# Altium integrated library Linear Technology PMIC-Switching Reg LTC1174-LTC3901.IntLib: 2647 symbols (part 63 of 310)
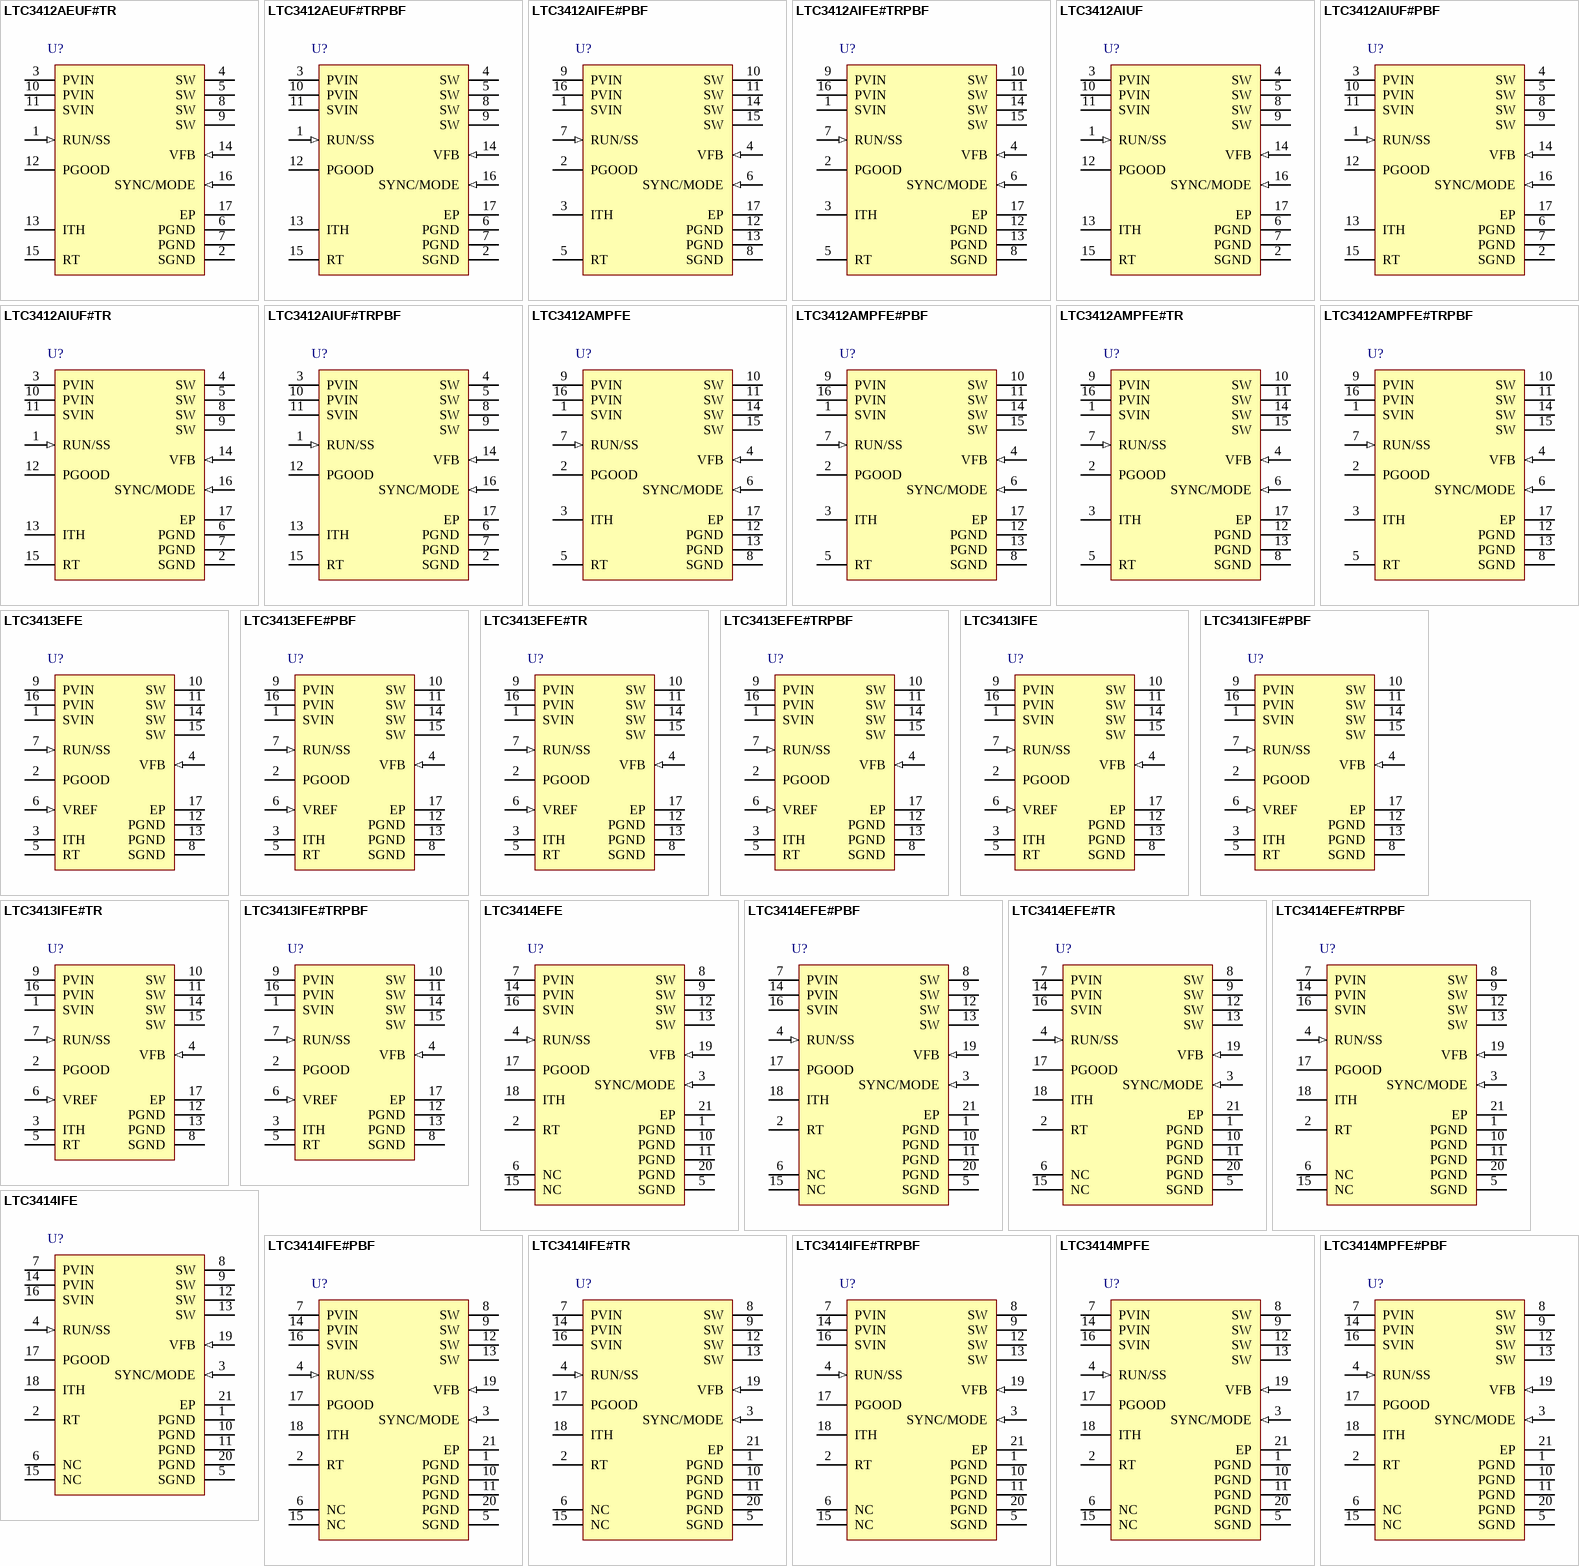
[diagram p152: symbols LTC3412AEUF#TR to LTC3414MPFE#PBF]

## LTC3413EFE#TR
designator U?
3 A, 2 MHz Monolithic Synchronous Regulator for DDR/QDR Memory Termination, 16-pin SOP (FE-16-EPV-BA), -40 to 85 degC, Tape and Reel; Manufacturer: Linear Technology; PartNumber: LTC3413EFE#TR; Number of Outputs: 1; PackageReference: FE-16; PackageDescription: 16-Pin Plastic TSSOP, Body 5 x 4.4 mm, Pitch 0.65 mm; Supplier 1: Digi-Key; Supplier Part Number 1: LTC3413EFE#TR-ND; RoHS: FALSE
footprint LT-FE-16-EPV-BA_N (SOP, 16-Leads, Body 5x4.4mm, Pitch 0.65mm, Thermal Pad 2.74x2.74mm, IPC Medium Density)
footprint LT-FE-16-EPV-BA_L (SOP, 16-Leads, Body 5x4.4mm, Pitch 0.65mm, Thermal Pad 2.74x2.74mm, IPC High Density)
footprint LT-FE-16-EPV-BA_M (SOP, 16-Leads, Body 5x4.4mm, Pitch 0.65mm, Thermal Pad 2.74x2.74mm, IPC Low Density)
pins: 1 SVIN (power) "Signal Input Supply. Decouple this pin to SGND with a capacitor. SVIN must be greater or equal to PVIN, however, the difference between SVIN and PVIN must be less than 0.5V.", 2 PGOOD (oc) "Power Good Output. Open-drain logic output that is pulled to ground when the output voltage is not within +/-10% of regulation point.", 3 ITH "Error Amplifier Compensation Point. The current comparator threshold increases with this control voltage. Nominal voltage range for this pin is from 0.2V to 1.4V with 0.6V corresponding to the zero-sense voltage (zero (See Datasheet)", 4 VFB (in) "Feedback Pin. Receives the feedback voltage from the output", 5 RT "Oscillator Resistor Input. Connecting a resistor to ground from this pin sets the switching frequency", 6 VREF (in) "Reference Voltage Input. The positive input of the internal error amplifier senses one-half of the voltage at this pin through a resistor divider.", 7 RUN/SS (in) "Run Control and Soft-Start Input. Forcing this pin below 0.5V shuts down the LTC3413. In shutdown all functions are disabled drawing < 1uA of supply current. A capacitor to ground from this pin sets the ramp time to full (See Datasheet)", 8 SGND (power) "Signal Ground. All small-signal components and compensation components should connect to this ground, which in turn connects to PGND at one point.", 9 PVIN (power) "Power Input Supply. Decouple this pin to PGND with a capacitor.", 10 SW (power) "Switch Node Connection to Inductor. This pin connects to the drains of the internal main and synchronous power MOSFET switches.", 11 SW (power) "Switch Node Connection to Inductor. This pin connects to the drains of the internal main and synchronous power MOSFET switches.", 12 PGND (power) "Power Ground. Connect this pin closely to the (-) terminal of CIN and COUT.", 13 PGND (power) "Power Ground. Connect this pin closely to the (-) terminal of CIN and COUT.", 14 SW (power) "Switch Node Connection to Inductor. This pin connects to the drains of the internal main and synchronous power MOSFET switches.", 15 SW (power) "Switch Node Connection to Inductor. This pin connects to the drains of the internal main and synchronous power MOSFET switches.", 16 PVIN (power) "Power Input Supply. Decouple this pin to PGND with a capacitor.", 17 EP (power) "Should be connected to PCB ground."

## LTC3413EFE#TRPBF
designator U?
3 A, 2 MHz Monolithic Synchronous Regulator for DDR/QDR Memory Termination, 16-pin SOP (FE-16-EPV-BA), -40 to 85 degC, Pb-Free, Tape and Reel; Manufacturer: Linear Technology; PartNumber: LTC3413EFE#TRPBF; Number of Outputs: 1; PackageReference: FE-16; PackageDescription: 16-Pin Plastic TSSOP, Body 5 x 4.4 mm, Pitch 0.65 mm; Supplier 1: Digi-Key; Supplier Part Number 1: LTC3413EFE#TRPBF-ND; RoHS: TRUE
footprint LT-FE-16-EPV-BA_N (SOP, 16-Leads, Body 5x4.4mm, Pitch 0.65mm, Thermal Pad 2.74x2.74mm, IPC Medium Density)
footprint LT-FE-16-EPV-BA_L (SOP, 16-Leads, Body 5x4.4mm, Pitch 0.65mm, Thermal Pad 2.74x2.74mm, IPC High Density)
footprint LT-FE-16-EPV-BA_M (SOP, 16-Leads, Body 5x4.4mm, Pitch 0.65mm, Thermal Pad 2.74x2.74mm, IPC Low Density)
pins: 1 SVIN (power) "Signal Input Supply. Decouple this pin to SGND with a capacitor. SVIN must be greater or equal to PVIN, however, the difference between SVIN and PVIN must be less than 0.5V.", 2 PGOOD (oc) "Power Good Output. Open-drain logic output that is pulled to ground when the output voltage is not within +/-10% of regulation point.", 3 ITH "Error Amplifier Compensation Point. The current comparator threshold increases with this control voltage. Nominal voltage range for this pin is from 0.2V to 1.4V with 0.6V corresponding to the zero-sense voltage (zero (See Datasheet)", 4 VFB (in) "Feedback Pin. Receives the feedback voltage from the output", 5 RT "Oscillator Resistor Input. Connecting a resistor to ground from this pin sets the switching frequency", 6 VREF (in) "Reference Voltage Input. The positive input of the internal error amplifier senses one-half of the voltage at this pin through a resistor divider.", 7 RUN/SS (in) "Run Control and Soft-Start Input. Forcing this pin below 0.5V shuts down the LTC3413. In shutdown all functions are disabled drawing < 1uA of supply current. A capacitor to ground from this pin sets the ramp time to full (See Datasheet)", 8 SGND (power) "Signal Ground. All small-signal components and compensation components should connect to this ground, which in turn connects to PGND at one point.", 9 PVIN (power) "Power Input Supply. Decouple this pin to PGND with a capacitor.", 10 SW (power) "Switch Node Connection to Inductor. This pin connects to the drains of the internal main and synchronous power MOSFET switches.", 11 SW (power) "Switch Node Connection to Inductor. This pin connects to the drains of the internal main and synchronous power MOSFET switches.", 12 PGND (power) "Power Ground. Connect this pin closely to the (-) terminal of CIN and COUT.", 13 PGND (power) "Power Ground. Connect this pin closely to the (-) terminal of CIN and COUT.", 14 SW (power) "Switch Node Connection to Inductor. This pin connects to the drains of the internal main and synchronous power MOSFET switches.", 15 SW (power) "Switch Node Connection to Inductor. This pin connects to the drains of the internal main and synchronous power MOSFET switches.", 16 PVIN (power) "Power Input Supply. Decouple this pin to PGND with a capacitor.", 17 EP (power) "Should be connected to PCB ground."

## LTC3413IFE
designator U?
3 A, 2 MHz Monolithic Synchronous Regulator for DDR/QDR Memory Termination, 16-pin SOP (FE-16-EPV-BA), -40 to 85 degC; Manufacturer: Linear Technology; PartNumber: LTC3413IFE; Number of Outputs: 1; PackageReference: FE-16; PackageDescription: 16-Pin Plastic TSSOP, Body 5 x 4.4 mm, Pitch 0.65 mm; Supplier 1: Newark; Supplier Part Number 1: 56M7703; RoHS: FALSE
footprint LT-FE-16-EPV-BA_N (SOP, 16-Leads, Body 5x4.4mm, Pitch 0.65mm, Thermal Pad 2.74x2.74mm, IPC Medium Density)
footprint LT-FE-16-EPV-BA_L (SOP, 16-Leads, Body 5x4.4mm, Pitch 0.65mm, Thermal Pad 2.74x2.74mm, IPC High Density)
footprint LT-FE-16-EPV-BA_M (SOP, 16-Leads, Body 5x4.4mm, Pitch 0.65mm, Thermal Pad 2.74x2.74mm, IPC Low Density)
pins: 1 SVIN (power) "Signal Input Supply. Decouple this pin to SGND with a capacitor. SVIN must be greater or equal to PVIN, however, the difference between SVIN and PVIN must be less than 0.5V.", 2 PGOOD (oc) "Power Good Output. Open-drain logic output that is pulled to ground when the output voltage is not within +/-10% of regulation point.", 3 ITH "Error Amplifier Compensation Point. The current comparator threshold increases with this control voltage. Nominal voltage range for this pin is from 0.2V to 1.4V with 0.6V corresponding to the zero-sense voltage (zero (See Datasheet)", 4 VFB (in) "Feedback Pin. Receives the feedback voltage from the output", 5 RT "Oscillator Resistor Input. Connecting a resistor to ground from this pin sets the switching frequency", 6 VREF (in) "Reference Voltage Input. The positive input of the internal error amplifier senses one-half of the voltage at this pin through a resistor divider.", 7 RUN/SS (in) "Run Control and Soft-Start Input. Forcing this pin below 0.5V shuts down the LTC3413. In shutdown all functions are disabled drawing < 1uA of supply current. A capacitor to ground from this pin sets the ramp time to full (See Datasheet)", 8 SGND (power) "Signal Ground. All small-signal components and compensation components should connect to this ground, which in turn connects to PGND at one point.", 9 PVIN (power) "Power Input Supply. Decouple this pin to PGND with a capacitor.", 10 SW (power) "Switch Node Connection to Inductor. This pin connects to the drains of the internal main and synchronous power MOSFET switches.", 11 SW (power) "Switch Node Connection to Inductor. This pin connects to the drains of the internal main and synchronous power MOSFET switches.", 12 PGND (power) "Power Ground. Connect this pin closely to the (-) terminal of CIN and COUT.", 13 PGND (power) "Power Ground. Connect this pin closely to the (-) terminal of CIN and COUT.", 14 SW (power) "Switch Node Connection to Inductor. This pin connects to the drains of the internal main and synchronous power MOSFET switches.", 15 SW (power) "Switch Node Connection to Inductor. This pin connects to the drains of the internal main and synchronous power MOSFET switches.", 16 PVIN (power) "Power Input Supply. Decouple this pin to PGND with a capacitor.", 17 EP (power) "Should be connected to PCB ground."

## LTC3413IFE#PBF
designator U?
3 A, 2 MHz Monolithic Synchronous Regulator for DDR/QDR Memory Termination, 16-pin SOP (FE-16-EPV-BA), -40 to 85 degC, Pb-Free; Manufacturer: Linear Technology; PartNumber: LTC3413IFE#PBF; Number of Outputs: 1; PackageReference: FE-16; PackageDescription: 16-Pin Plastic TSSOP, Body 5 x 4.4 mm, Pitch 0.65 mm; Supplier 1: Digi-Key; Supplier Part Number 1: LTC3413IFE#PBF-ND; RoHS: TRUE
footprint LT-FE-16-EPV-BA_N (SOP, 16-Leads, Body 5x4.4mm, Pitch 0.65mm, Thermal Pad 2.74x2.74mm, IPC Medium Density)
footprint LT-FE-16-EPV-BA_L (SOP, 16-Leads, Body 5x4.4mm, Pitch 0.65mm, Thermal Pad 2.74x2.74mm, IPC High Density)
footprint LT-FE-16-EPV-BA_M (SOP, 16-Leads, Body 5x4.4mm, Pitch 0.65mm, Thermal Pad 2.74x2.74mm, IPC Low Density)
pins: 1 SVIN (power) "Signal Input Supply. Decouple this pin to SGND with a capacitor. SVIN must be greater or equal to PVIN, however, the difference between SVIN and PVIN must be less than 0.5V.", 2 PGOOD (oc) "Power Good Output. Open-drain logic output that is pulled to ground when the output voltage is not within +/-10% of regulation point.", 3 ITH "Error Amplifier Compensation Point. The current comparator threshold increases with this control voltage. Nominal voltage range for this pin is from 0.2V to 1.4V with 0.6V corresponding to the zero-sense voltage (zero (See Datasheet)", 4 VFB (in) "Feedback Pin. Receives the feedback voltage from the output", 5 RT "Oscillator Resistor Input. Connecting a resistor to ground from this pin sets the switching frequency", 6 VREF (in) "Reference Voltage Input. The positive input of the internal error amplifier senses one-half of the voltage at this pin through a resistor divider.", 7 RUN/SS (in) "Run Control and Soft-Start Input. Forcing this pin below 0.5V shuts down the LTC3413. In shutdown all functions are disabled drawing < 1uA of supply current. A capacitor to ground from this pin sets the ramp time to full (See Datasheet)", 8 SGND (power) "Signal Ground. All small-signal components and compensation components should connect to this ground, which in turn connects to PGND at one point.", 9 PVIN (power) "Power Input Supply. Decouple this pin to PGND with a capacitor.", 10 SW (power) "Switch Node Connection to Inductor. This pin connects to the drains of the internal main and synchronous power MOSFET switches.", 11 SW (power) "Switch Node Connection to Inductor. This pin connects to the drains of the internal main and synchronous power MOSFET switches.", 12 PGND (power) "Power Ground. Connect this pin closely to the (-) terminal of CIN and COUT.", 13 PGND (power) "Power Ground. Connect this pin closely to the (-) terminal of CIN and COUT.", 14 SW (power) "Switch Node Connection to Inductor. This pin connects to the drains of the internal main and synchronous power MOSFET switches.", 15 SW (power) "Switch Node Connection to Inductor. This pin connects to the drains of the internal main and synchronous power MOSFET switches.", 16 PVIN (power) "Power Input Supply. Decouple this pin to PGND with a capacitor.", 17 EP (power) "Should be connected to PCB ground."

## LTC3413IFE#TR
designator U?
3 A, 2 MHz Monolithic Synchronous Regulator for DDR/QDR Memory Termination, 16-pin SOP (FE-16-EPV-BA), -40 to 85 degC, Tape and Reel; Manufacturer: Linear Technology; PartNumber: LTC3413IFE#TR; Number of Outputs: 1; PackageReference: FE-16; PackageDescription: 16-Pin Plastic TSSOP, Body 5 x 4.4 mm, Pitch 0.65 mm; RoHS: FALSE
footprint LT-FE-16-EPV-BA_N (SOP, 16-Leads, Body 5x4.4mm, Pitch 0.65mm, Thermal Pad 2.74x2.74mm, IPC Medium Density)
footprint LT-FE-16-EPV-BA_L (SOP, 16-Leads, Body 5x4.4mm, Pitch 0.65mm, Thermal Pad 2.74x2.74mm, IPC High Density)
footprint LT-FE-16-EPV-BA_M (SOP, 16-Leads, Body 5x4.4mm, Pitch 0.65mm, Thermal Pad 2.74x2.74mm, IPC Low Density)
pins: 1 SVIN (power) "Signal Input Supply. Decouple this pin to SGND with a capacitor. SVIN must be greater or equal to PVIN, however, the difference between SVIN and PVIN must be less than 0.5V.", 2 PGOOD (oc) "Power Good Output. Open-drain logic output that is pulled to ground when the output voltage is not within +/-10% of regulation point.", 3 ITH "Error Amplifier Compensation Point. The current comparator threshold increases with this control voltage. Nominal voltage range for this pin is from 0.2V to 1.4V with 0.6V corresponding to the zero-sense voltage (zero (See Datasheet)", 4 VFB (in) "Feedback Pin. Receives the feedback voltage from the output", 5 RT "Oscillator Resistor Input. Connecting a resistor to ground from this pin sets the switching frequency", 6 VREF (in) "Reference Voltage Input. The positive input of the internal error amplifier senses one-half of the voltage at this pin through a resistor divider.", 7 RUN/SS (in) "Run Control and Soft-Start Input. Forcing this pin below 0.5V shuts down the LTC3413. In shutdown all functions are disabled drawing < 1uA of supply current. A capacitor to ground from this pin sets the ramp time to full (See Datasheet)", 8 SGND (power) "Signal Ground. All small-signal components and compensation components should connect to this ground, which in turn connects to PGND at one point.", 9 PVIN (power) "Power Input Supply. Decouple this pin to PGND with a capacitor.", 10 SW (power) "Switch Node Connection to Inductor. This pin connects to the drains of the internal main and synchronous power MOSFET switches.", 11 SW (power) "Switch Node Connection to Inductor. This pin connects to the drains of the internal main and synchronous power MOSFET switches.", 12 PGND (power) "Power Ground. Connect this pin closely to the (-) terminal of CIN and COUT.", 13 PGND (power) "Power Ground. Connect this pin closely to the (-) terminal of CIN and COUT.", 14 SW (power) "Switch Node Connection to Inductor. This pin connects to the drains of the internal main and synchronous power MOSFET switches.", 15 SW (power) "Switch Node Connection to Inductor. This pin connects to the drains of the internal main and synchronous power MOSFET switches.", 16 PVIN (power) "Power Input Supply. Decouple this pin to PGND with a capacitor.", 17 EP (power) "Should be connected to PCB ground."

## LTC3413IFE#TRPBF
designator U?
3 A, 2 MHz Monolithic Synchronous Regulator for DDR/QDR Memory Termination, 16-pin SOP (FE-16-EPV-BA), -40 to 85 degC, Pb-Free, Tape and Reel; Manufacturer: Linear Technology; PartNumber: LTC3413IFE#TRPBF; Number of Outputs: 1; PackageReference: FE-16; PackageDescription: 16-Pin Plastic TSSOP, Body 5 x 4.4 mm, Pitch 0.65 mm; Supplier 1: Digi-Key; Supplier Part Number 1: LTC3413IFE#TRPBF-ND; RoHS: TRUE
footprint LT-FE-16-EPV-BA_N (SOP, 16-Leads, Body 5x4.4mm, Pitch 0.65mm, Thermal Pad 2.74x2.74mm, IPC Medium Density)
footprint LT-FE-16-EPV-BA_L (SOP, 16-Leads, Body 5x4.4mm, Pitch 0.65mm, Thermal Pad 2.74x2.74mm, IPC High Density)
footprint LT-FE-16-EPV-BA_M (SOP, 16-Leads, Body 5x4.4mm, Pitch 0.65mm, Thermal Pad 2.74x2.74mm, IPC Low Density)
pins: 1 SVIN (power) "Signal Input Supply. Decouple this pin to SGND with a capacitor. SVIN must be greater or equal to PVIN, however, the difference between SVIN and PVIN must be less than 0.5V.", 2 PGOOD (oc) "Power Good Output. Open-drain logic output that is pulled to ground when the output voltage is not within +/-10% of regulation point.", 3 ITH "Error Amplifier Compensation Point. The current comparator threshold increases with this control voltage. Nominal voltage range for this pin is from 0.2V to 1.4V with 0.6V corresponding to the zero-sense voltage (zero (See Datasheet)", 4 VFB (in) "Feedback Pin. Receives the feedback voltage from the output", 5 RT "Oscillator Resistor Input. Connecting a resistor to ground from this pin sets the switching frequency", 6 VREF (in) "Reference Voltage Input. The positive input of the internal error amplifier senses one-half of the voltage at this pin through a resistor divider.", 7 RUN/SS (in) "Run Control and Soft-Start Input. Forcing this pin below 0.5V shuts down the LTC3413. In shutdown all functions are disabled drawing < 1uA of supply current. A capacitor to ground from this pin sets the ramp time to full (See Datasheet)", 8 SGND (power) "Signal Ground. All small-signal components and compensation components should connect to this ground, which in turn connects to PGND at one point.", 9 PVIN (power) "Power Input Supply. Decouple this pin to PGND with a capacitor.", 10 SW (power) "Switch Node Connection to Inductor. This pin connects to the drains of the internal main and synchronous power MOSFET switches.", 11 SW (power) "Switch Node Connection to Inductor. This pin connects to the drains of the internal main and synchronous power MOSFET switches.", 12 PGND (power) "Power Ground. Connect this pin closely to the (-) terminal of CIN and COUT.", 13 PGND (power) "Power Ground. Connect this pin closely to the (-) terminal of CIN and COUT.", 14 SW (power) "Switch Node Connection to Inductor. This pin connects to the drains of the internal main and synchronous power MOSFET switches.", 15 SW (power) "Switch Node Connection to Inductor. This pin connects to the drains of the internal main and synchronous power MOSFET switches.", 16 PVIN (power) "Power Input Supply. Decouple this pin to PGND with a capacitor.", 17 EP (power) "Should be connected to PCB ground."

## LTC3414EFE
designator U?
4 A, 4 MHz, Monolithic Synchronous Step-Down Regulator, 20-pin SOP (FE-20-EPV-CA), -40 to 85 degC; Manufacturer: Linear Technology; PartNumber: LTC3414EFE; Number of Outputs: 1; PackageReference: FE-20; PackageDescription: 20-Pin Plastic TSSOP, Body 6.5 x 4.4 mm, Pitch 0.65 mm; Supplier 1: Digi-Key; Supplier Part Number 1: LTC3414EFE-ND; RoHS: FALSE
footprint LT-FE-20-EPV-CA_N (SOP, 20-Leads, Body 6.6x4.5mm, Pitch 0.65mm, Thermal Pad 4.95x2.74mm, IPC Medium Density)
footprint LT-FE-20-EPV-CA_L (SOP, 20-Leads, Body 6.6x4.5mm, Pitch 0.65mm, Thermal Pad 4.95x2.74mm, IPC High Density)
footprint LT-FE-20-EPV-CA_M (SOP, 20-Leads, Body 6.6x4.5mm, Pitch 0.65mm, Thermal Pad 4.95x2.74mm, IPC Low Density)
pins: 1 PGND (power) "Power Ground. Connect this pin closely to the (-) terminal of CIN and COUT.", 2 RT "Oscillator Resistor Input. Connecting a resistor to ground from this pin sets the switching frequency.", 3 SYNC/MODE (in) "Mode Select and External Clock Synchronization Input. To select Forced Continuous, tie to SVIN. Connecting this pin to a voltage between 0V and 1V selects Burst Mode operation with the burst clamp set to the pin voltage.", 4 RUN/SS (in) "Run Control and Soft-Start Input. Forcing this pin below 0.5V shuts down the LTC3414. In shutdown all functions are disabled. Less than 1uA of supply current is consumed. A capacitor to ground from this pin sets the ramp (See Datasheet)", 5 SGND (power) "Signal Ground. All small signal components and compensation components should connect to this ground, which in turn connects to PGND at one point.", 6 NC "Open. No internal connection.", 7 PVIN (power) "Power Input Supply. Decouple this pin to PGND with a capacitor.", 8 SW (power) "Switch Node Connection to Inductor. This pin connects to the drains of the internal main and synchronous power MOSFET switches.", 9 SW (power) "Switch Node Connection to Inductor. This pin connects to the drains of the internal main and synchronous power MOSFET switches.", 10 PGND (power) "Power Ground. Connect this pin closely to the (-) terminal of CIN and COUT.", 11 PGND (power) "Power Ground. Connect this pin closely to the (-) terminal of CIN and COUT.", 12 SW (power) "Switch Node Connection to Inductor. This pin connects to the drains of the internal main and synchronous power MOSFET switches.", 13 SW (power) "Switch Node Connection to Inductor. This pin connects to the drains of the internal main and synchronous power MOSFET switches.", 14 PVIN (power) "Power Input Supply. Decouple this pin to PGND with a capacitor.", 15 NC "Open. No internal connection.", 16 SVIN (power) "Signal Input Supply. Decouple this pin to SGND with a capacitor.", 17 PGOOD (oc) "Power Good Output. Open drain logic output that is pulled to ground when the output voltage is not within +/-7.5% of regulation point.", 18 ITH "Error Amplifier Compensation Point. The current comparator threshold increases with this control voltage. Nominal voltage range for this pin is from 0.2V to 1.4V with 0.4V corresponding to the zero-sense voltage (zero (See Datasheet)", 19 VFB (in) "Feedback Pin. Receives the feedback voltage from a resistive divider connected across the output.", 20 PGND (power) "Power Ground. Connect this pin closely to the (-) terminal of CIN and COUT.", 21 EP (power) "Should be connected to SGND and soldered to the PCB."

## LTC3414EFE#PBF
designator U?
4 A, 4 MHz, Monolithic Synchronous Step-Down Regulator, 20-pin SOP (FE-20-EPV-CA), -40 to 85 degC, Pb-Free; Manufacturer: Linear Technology; PartNumber: LTC3414EFE#PBF; Number of Outputs: 1; PackageReference: FE-20; PackageDescription: 20-Pin Plastic TSSOP, Body 6.5 x 4.4 mm, Pitch 0.65 mm; Supplier 1: Digi-Key; Supplier Part Number 1: LTC3414EFE#PBF-ND; RoHS: TRUE
footprint LT-FE-20-EPV-CA_N (SOP, 20-Leads, Body 6.6x4.5mm, Pitch 0.65mm, Thermal Pad 4.95x2.74mm, IPC Medium Density)
footprint LT-FE-20-EPV-CA_L (SOP, 20-Leads, Body 6.6x4.5mm, Pitch 0.65mm, Thermal Pad 4.95x2.74mm, IPC High Density)
footprint LT-FE-20-EPV-CA_M (SOP, 20-Leads, Body 6.6x4.5mm, Pitch 0.65mm, Thermal Pad 4.95x2.74mm, IPC Low Density)
pins: 1 PGND (power) "Power Ground. Connect this pin closely to the (-) terminal of CIN and COUT.", 2 RT "Oscillator Resistor Input. Connecting a resistor to ground from this pin sets the switching frequency.", 3 SYNC/MODE (in) "Mode Select and External Clock Synchronization Input. To select Forced Continuous, tie to SVIN. Connecting this pin to a voltage between 0V and 1V selects Burst Mode operation with the burst clamp set to the pin voltage.", 4 RUN/SS (in) "Run Control and Soft-Start Input. Forcing this pin below 0.5V shuts down the LTC3414. In shutdown all functions are disabled. Less than 1uA of supply current is consumed. A capacitor to ground from this pin sets the ramp (See Datasheet)", 5 SGND (power) "Signal Ground. All small signal components and compensation components should connect to this ground, which in turn connects to PGND at one point.", 6 NC "Open. No internal connection.", 7 PVIN (power) "Power Input Supply. Decouple this pin to PGND with a capacitor.", 8 SW (power) "Switch Node Connection to Inductor. This pin connects to the drains of the internal main and synchronous power MOSFET switches.", 9 SW (power) "Switch Node Connection to Inductor. This pin connects to the drains of the internal main and synchronous power MOSFET switches.", 10 PGND (power) "Power Ground. Connect this pin closely to the (-) terminal of CIN and COUT.", 11 PGND (power) "Power Ground. Connect this pin closely to the (-) terminal of CIN and COUT.", 12 SW (power) "Switch Node Connection to Inductor. This pin connects to the drains of the internal main and synchronous power MOSFET switches.", 13 SW (power) "Switch Node Connection to Inductor. This pin connects to the drains of the internal main and synchronous power MOSFET switches.", 14 PVIN (power) "Power Input Supply. Decouple this pin to PGND with a capacitor.", 15 NC "Open. No internal connection.", 16 SVIN (power) "Signal Input Supply. Decouple this pin to SGND with a capacitor.", 17 PGOOD (oc) "Power Good Output. Open drain logic output that is pulled to ground when the output voltage is not within +/-7.5% of regulation point.", 18 ITH "Error Amplifier Compensation Point. The current comparator threshold increases with this control voltage. Nominal voltage range for this pin is from 0.2V to 1.4V with 0.4V corresponding to the zero-sense voltage (zero (See Datasheet)", 19 VFB (in) "Feedback Pin. Receives the feedback voltage from a resistive divider connected across the output.", 20 PGND (power) "Power Ground. Connect this pin closely to the (-) terminal of CIN and COUT.", 21 EP (power) "Should be connected to SGND and soldered to the PCB."

## LTC3414EFE#TR
designator U?
4 A, 4 MHz, Monolithic Synchronous Step-Down Regulator, 20-pin SOP (FE-20-EPV-CA), -40 to 85 degC, Tape and Reel; Manufacturer: Linear Technology; PartNumber: LTC3414EFE#TR; Number of Outputs: 1; PackageReference: FE-20; PackageDescription: 20-Pin Plastic TSSOP, Body 6.5 x 4.4 mm, Pitch 0.65 mm; Supplier 1: Digi-Key; Supplier Part Number 1: LTC3414EFE#TR-ND; RoHS: FALSE
footprint LT-FE-20-EPV-CA_N (SOP, 20-Leads, Body 6.6x4.5mm, Pitch 0.65mm, Thermal Pad 4.95x2.74mm, IPC Medium Density)
footprint LT-FE-20-EPV-CA_L (SOP, 20-Leads, Body 6.6x4.5mm, Pitch 0.65mm, Thermal Pad 4.95x2.74mm, IPC High Density)
footprint LT-FE-20-EPV-CA_M (SOP, 20-Leads, Body 6.6x4.5mm, Pitch 0.65mm, Thermal Pad 4.95x2.74mm, IPC Low Density)
pins: 1 PGND (power) "Power Ground. Connect this pin closely to the (-) terminal of CIN and COUT.", 2 RT "Oscillator Resistor Input. Connecting a resistor to ground from this pin sets the switching frequency.", 3 SYNC/MODE (in) "Mode Select and External Clock Synchronization Input. To select Forced Continuous, tie to SVIN. Connecting this pin to a voltage between 0V and 1V selects Burst Mode operation with the burst clamp set to the pin voltage.", 4 RUN/SS (in) "Run Control and Soft-Start Input. Forcing this pin below 0.5V shuts down the LTC3414. In shutdown all functions are disabled. Less than 1uA of supply current is consumed. A capacitor to ground from this pin sets the ramp (See Datasheet)", 5 SGND (power) "Signal Ground. All small signal components and compensation components should connect to this ground, which in turn connects to PGND at one point.", 6 NC "Open. No internal connection.", 7 PVIN (power) "Power Input Supply. Decouple this pin to PGND with a capacitor.", 8 SW (power) "Switch Node Connection to Inductor. This pin connects to the drains of the internal main and synchronous power MOSFET switches.", 9 SW (power) "Switch Node Connection to Inductor. This pin connects to the drains of the internal main and synchronous power MOSFET switches.", 10 PGND (power) "Power Ground. Connect this pin closely to the (-) terminal of CIN and COUT.", 11 PGND (power) "Power Ground. Connect this pin closely to the (-) terminal of CIN and COUT.", 12 SW (power) "Switch Node Connection to Inductor. This pin connects to the drains of the internal main and synchronous power MOSFET switches.", 13 SW (power) "Switch Node Connection to Inductor. This pin connects to the drains of the internal main and synchronous power MOSFET switches.", 14 PVIN (power) "Power Input Supply. Decouple this pin to PGND with a capacitor.", 15 NC "Open. No internal connection.", 16 SVIN (power) "Signal Input Supply. Decouple this pin to SGND with a capacitor.", 17 PGOOD (oc) "Power Good Output. Open drain logic output that is pulled to ground when the output voltage is not within +/-7.5% of regulation point.", 18 ITH "Error Amplifier Compensation Point. The current comparator threshold increases with this control voltage. Nominal voltage range for this pin is from 0.2V to 1.4V with 0.4V corresponding to the zero-sense voltage (zero (See Datasheet)", 19 VFB (in) "Feedback Pin. Receives the feedback voltage from a resistive divider connected across the output.", 20 PGND (power) "Power Ground. Connect this pin closely to the (-) terminal of CIN and COUT.", 21 EP (power) "Should be connected to SGND and soldered to the PCB."

## LTC3414EFE#TRPBF
designator U?
4 A, 4 MHz, Monolithic Synchronous Step-Down Regulator, 20-pin SOP (FE-20-EPV-CA), -40 to 85 degC, Pb-Free, Tape and Reel; Manufacturer: Linear Technology; PartNumber: LTC3414EFE#TRPBF; Number of Outputs: 1; PackageReference: FE-20; PackageDescription: 20-Pin Plastic TSSOP, Body 6.5 x 4.4 mm, Pitch 0.65 mm; Supplier 1: Digi-Key; Supplier Part Number 1: LTC3414EFE#TRPBF-ND; RoHS: TRUE
footprint LT-FE-20-EPV-CA_N (SOP, 20-Leads, Body 6.6x4.5mm, Pitch 0.65mm, Thermal Pad 4.95x2.74mm, IPC Medium Density)
footprint LT-FE-20-EPV-CA_L (SOP, 20-Leads, Body 6.6x4.5mm, Pitch 0.65mm, Thermal Pad 4.95x2.74mm, IPC High Density)
footprint LT-FE-20-EPV-CA_M (SOP, 20-Leads, Body 6.6x4.5mm, Pitch 0.65mm, Thermal Pad 4.95x2.74mm, IPC Low Density)
pins: 1 PGND (power) "Power Ground. Connect this pin closely to the (-) terminal of CIN and COUT.", 2 RT "Oscillator Resistor Input. Connecting a resistor to ground from this pin sets the switching frequency.", 3 SYNC/MODE (in) "Mode Select and External Clock Synchronization Input. To select Forced Continuous, tie to SVIN. Connecting this pin to a voltage between 0V and 1V selects Burst Mode operation with the burst clamp set to the pin voltage.", 4 RUN/SS (in) "Run Control and Soft-Start Input. Forcing this pin below 0.5V shuts down the LTC3414. In shutdown all functions are disabled. Less than 1uA of supply current is consumed. A capacitor to ground from this pin sets the ramp (See Datasheet)", 5 SGND (power) "Signal Ground. All small signal components and compensation components should connect to this ground, which in turn connects to PGND at one point.", 6 NC "Open. No internal connection.", 7 PVIN (power) "Power Input Supply. Decouple this pin to PGND with a capacitor.", 8 SW (power) "Switch Node Connection to Inductor. This pin connects to the drains of the internal main and synchronous power MOSFET switches.", 9 SW (power) "Switch Node Connection to Inductor. This pin connects to the drains of the internal main and synchronous power MOSFET switches.", 10 PGND (power) "Power Ground. Connect this pin closely to the (-) terminal of CIN and COUT.", 11 PGND (power) "Power Ground. Connect this pin closely to the (-) terminal of CIN and COUT.", 12 SW (power) "Switch Node Connection to Inductor. This pin connects to the drains of the internal main and synchronous power MOSFET switches.", 13 SW (power) "Switch Node Connection to Inductor. This pin connects to the drains of the internal main and synchronous power MOSFET switches.", 14 PVIN (power) "Power Input Supply. Decouple this pin to PGND with a capacitor.", 15 NC "Open. No internal connection.", 16 SVIN (power) "Signal Input Supply. Decouple this pin to SGND with a capacitor.", 17 PGOOD (oc) "Power Good Output. Open drain logic output that is pulled to ground when the output voltage is not within +/-7.5% of regulation point.", 18 ITH "Error Amplifier Compensation Point. The current comparator threshold increases with this control voltage. Nominal voltage range for this pin is from 0.2V to 1.4V with 0.4V corresponding to the zero-sense voltage (zero (See Datasheet)", 19 VFB (in) "Feedback Pin. Receives the feedback voltage from a resistive divider connected across the output.", 20 PGND (power) "Power Ground. Connect this pin closely to the (-) terminal of CIN and COUT.", 21 EP (power) "Should be connected to SGND and soldered to the PCB."

## LTC3414IFE
designator U?
4 A, 4 MHz, Monolithic Synchronous Step-Down Regulator, 20-pin SOP (FE-20-EPV-CA), -40 to 85 degC; Manufacturer: Linear Technology; PartNumber: LTC3414IFE; Number of Outputs: 1; PackageReference: FE-20; PackageDescription: 20-Pin Plastic TSSOP, Body 6.5 x 4.4 mm, Pitch 0.65 mm; RoHS: FALSE
footprint LT-FE-20-EPV-CA_N (SOP, 20-Leads, Body 6.6x4.5mm, Pitch 0.65mm, Thermal Pad 4.95x2.74mm, IPC Medium Density)
footprint LT-FE-20-EPV-CA_L (SOP, 20-Leads, Body 6.6x4.5mm, Pitch 0.65mm, Thermal Pad 4.95x2.74mm, IPC High Density)
footprint LT-FE-20-EPV-CA_M (SOP, 20-Leads, Body 6.6x4.5mm, Pitch 0.65mm, Thermal Pad 4.95x2.74mm, IPC Low Density)
pins: 1 PGND (power) "Power Ground. Connect this pin closely to the (-) terminal of CIN and COUT.", 2 RT "Oscillator Resistor Input. Connecting a resistor to ground from this pin sets the switching frequency.", 3 SYNC/MODE (in) "Mode Select and External Clock Synchronization Input. To select Forced Continuous, tie to SVIN. Connecting this pin to a voltage between 0V and 1V selects Burst Mode operation with the burst clamp set to the pin voltage.", 4 RUN/SS (in) "Run Control and Soft-Start Input. Forcing this pin below 0.5V shuts down the LTC3414. In shutdown all functions are disabled. Less than 1uA of supply current is consumed. A capacitor to ground from this pin sets the ramp (See Datasheet)", 5 SGND (power) "Signal Ground. All small signal components and compensation components should connect to this ground, which in turn connects to PGND at one point.", 6 NC "Open. No internal connection.", 7 PVIN (power) "Power Input Supply. Decouple this pin to PGND with a capacitor.", 8 SW (power) "Switch Node Connection to Inductor. This pin connects to the drains of the internal main and synchronous power MOSFET switches.", 9 SW (power) "Switch Node Connection to Inductor. This pin connects to the drains of the internal main and synchronous power MOSFET switches.", 10 PGND (power) "Power Ground. Connect this pin closely to the (-) terminal of CIN and COUT.", 11 PGND (power) "Power Ground. Connect this pin closely to the (-) terminal of CIN and COUT.", 12 SW (power) "Switch Node Connection to Inductor. This pin connects to the drains of the internal main and synchronous power MOSFET switches.", 13 SW (power) "Switch Node Connection to Inductor. This pin connects to the drains of the internal main and synchronous power MOSFET switches.", 14 PVIN (power) "Power Input Supply. Decouple this pin to PGND with a capacitor.", 15 NC "Open. No internal connection.", 16 SVIN (power) "Signal Input Supply. Decouple this pin to SGND with a capacitor.", 17 PGOOD (oc) "Power Good Output. Open drain logic output that is pulled to ground when the output voltage is not within +/-7.5% of regulation point.", 18 ITH "Error Amplifier Compensation Point. The current comparator threshold increases with this control voltage. Nominal voltage range for this pin is from 0.2V to 1.4V with 0.4V corresponding to the zero-sense voltage (zero (See Datasheet)", 19 VFB (in) "Feedback Pin. Receives the feedback voltage from a resistive divider connected across the output.", 20 PGND (power) "Power Ground. Connect this pin closely to the (-) terminal of CIN and COUT.", 21 EP (power) "Should be connected to SGND and soldered to the PCB."

## LTC3414IFE#PBF
designator U?
4 A, 4 MHz, Monolithic Synchronous Step-Down Regulator, 20-pin SOP (FE-20-EPV-CA), -40 to 85 degC, Pb-Free; Manufacturer: Linear Technology; PartNumber: LTC3414IFE#PBF; Number of Outputs: 1; PackageReference: FE-20; PackageDescription: 20-Pin Plastic TSSOP, Body 6.5 x 4.4 mm, Pitch 0.65 mm; Supplier 1: Digi-Key; Supplier Part Number 1: LTC3414IFE#PBF-ND; RoHS: TRUE
footprint LT-FE-20-EPV-CA_N (SOP, 20-Leads, Body 6.6x4.5mm, Pitch 0.65mm, Thermal Pad 4.95x2.74mm, IPC Medium Density)
footprint LT-FE-20-EPV-CA_L (SOP, 20-Leads, Body 6.6x4.5mm, Pitch 0.65mm, Thermal Pad 4.95x2.74mm, IPC High Density)
footprint LT-FE-20-EPV-CA_M (SOP, 20-Leads, Body 6.6x4.5mm, Pitch 0.65mm, Thermal Pad 4.95x2.74mm, IPC Low Density)
pins: 1 PGND (power) "Power Ground. Connect this pin closely to the (-) terminal of CIN and COUT.", 2 RT "Oscillator Resistor Input. Connecting a resistor to ground from this pin sets the switching frequency.", 3 SYNC/MODE (in) "Mode Select and External Clock Synchronization Input. To select Forced Continuous, tie to SVIN. Connecting this pin to a voltage between 0V and 1V selects Burst Mode operation with the burst clamp set to the pin voltage.", 4 RUN/SS (in) "Run Control and Soft-Start Input. Forcing this pin below 0.5V shuts down the LTC3414. In shutdown all functions are disabled. Less than 1uA of supply current is consumed. A capacitor to ground from this pin sets the ramp (See Datasheet)", 5 SGND (power) "Signal Ground. All small signal components and compensation components should connect to this ground, which in turn connects to PGND at one point.", 6 NC "Open. No internal connection.", 7 PVIN (power) "Power Input Supply. Decouple this pin to PGND with a capacitor.", 8 SW (power) "Switch Node Connection to Inductor. This pin connects to the drains of the internal main and synchronous power MOSFET switches.", 9 SW (power) "Switch Node Connection to Inductor. This pin connects to the drains of the internal main and synchronous power MOSFET switches.", 10 PGND (power) "Power Ground. Connect this pin closely to the (-) terminal of CIN and COUT.", 11 PGND (power) "Power Ground. Connect this pin closely to the (-) terminal of CIN and COUT.", 12 SW (power) "Switch Node Connection to Inductor. This pin connects to the drains of the internal main and synchronous power MOSFET switches.", 13 SW (power) "Switch Node Connection to Inductor. This pin connects to the drains of the internal main and synchronous power MOSFET switches.", 14 PVIN (power) "Power Input Supply. Decouple this pin to PGND with a capacitor.", 15 NC "Open. No internal connection.", 16 SVIN (power) "Signal Input Supply. Decouple this pin to SGND with a capacitor.", 17 PGOOD (oc) "Power Good Output. Open drain logic output that is pulled to ground when the output voltage is not within +/-7.5% of regulation point.", 18 ITH "Error Amplifier Compensation Point. The current comparator threshold increases with this control voltage. Nominal voltage range for this pin is from 0.2V to 1.4V with 0.4V corresponding to the zero-sense voltage (zero (See Datasheet)", 19 VFB (in) "Feedback Pin. Receives the feedback voltage from a resistive divider connected across the output.", 20 PGND (power) "Power Ground. Connect this pin closely to the (-) terminal of CIN and COUT.", 21 EP (power) "Should be connected to SGND and soldered to the PCB."

## LTC3414IFE#TR
designator U?
4 A, 4 MHz, Monolithic Synchronous Step-Down Regulator, 20-pin SOP (FE-20-EPV-CA), -40 to 85 degC, Tape and Reel; Manufacturer: Linear Technology; PartNumber: LTC3414IFE#TR; Number of Outputs: 1; PackageReference: FE-20; PackageDescription: 20-Pin Plastic TSSOP, Body 6.5 x 4.4 mm, Pitch 0.65 mm; Supplier 1: Newark; Supplier Part Number 1: 56M7713; RoHS: FALSE
footprint LT-FE-20-EPV-CA_N (SOP, 20-Leads, Body 6.6x4.5mm, Pitch 0.65mm, Thermal Pad 4.95x2.74mm, IPC Medium Density)
footprint LT-FE-20-EPV-CA_L (SOP, 20-Leads, Body 6.6x4.5mm, Pitch 0.65mm, Thermal Pad 4.95x2.74mm, IPC High Density)
footprint LT-FE-20-EPV-CA_M (SOP, 20-Leads, Body 6.6x4.5mm, Pitch 0.65mm, Thermal Pad 4.95x2.74mm, IPC Low Density)
pins: 1 PGND (power) "Power Ground. Connect this pin closely to the (-) terminal of CIN and COUT.", 2 RT "Oscillator Resistor Input. Connecting a resistor to ground from this pin sets the switching frequency.", 3 SYNC/MODE (in) "Mode Select and External Clock Synchronization Input. To select Forced Continuous, tie to SVIN. Connecting this pin to a voltage between 0V and 1V selects Burst Mode operation with the burst clamp set to the pin voltage.", 4 RUN/SS (in) "Run Control and Soft-Start Input. Forcing this pin below 0.5V shuts down the LTC3414. In shutdown all functions are disabled. Less than 1uA of supply current is consumed. A capacitor to ground from this pin sets the ramp (See Datasheet)", 5 SGND (power) "Signal Ground. All small signal components and compensation components should connect to this ground, which in turn connects to PGND at one point.", 6 NC "Open. No internal connection.", 7 PVIN (power) "Power Input Supply. Decouple this pin to PGND with a capacitor.", 8 SW (power) "Switch Node Connection to Inductor. This pin connects to the drains of the internal main and synchronous power MOSFET switches.", 9 SW (power) "Switch Node Connection to Inductor. This pin connects to the drains of the internal main and synchronous power MOSFET switches.", 10 PGND (power) "Power Ground. Connect this pin closely to the (-) terminal of CIN and COUT.", 11 PGND (power) "Power Ground. Connect this pin closely to the (-) terminal of CIN and COUT.", 12 SW (power) "Switch Node Connection to Inductor. This pin connects to the drains of the internal main and synchronous power MOSFET switches.", 13 SW (power) "Switch Node Connection to Inductor. This pin connects to the drains of the internal main and synchronous power MOSFET switches.", 14 PVIN (power) "Power Input Supply. Decouple this pin to PGND with a capacitor.", 15 NC "Open. No internal connection.", 16 SVIN (power) "Signal Input Supply. Decouple this pin to SGND with a capacitor.", 17 PGOOD (oc) "Power Good Output. Open drain logic output that is pulled to ground when the output voltage is not within +/-7.5% of regulation point.", 18 ITH "Error Amplifier Compensation Point. The current comparator threshold increases with this control voltage. Nominal voltage range for this pin is from 0.2V to 1.4V with 0.4V corresponding to the zero-sense voltage (zero (See Datasheet)", 19 VFB (in) "Feedback Pin. Receives the feedback voltage from a resistive divider connected across the output.", 20 PGND (power) "Power Ground. Connect this pin closely to the (-) terminal of CIN and COUT.", 21 EP (power) "Should be connected to SGND and soldered to the PCB."

## LTC3414IFE#TRPBF
designator U?
4 A, 4 MHz, Monolithic Synchronous Step-Down Regulator, 20-pin SOP (FE-20-EPV-CA), -40 to 85 degC, Pb-Free, Tape and Reel; Manufacturer: Linear Technology; PartNumber: LTC3414IFE#TRPBF; Number of Outputs: 1; PackageReference: FE-20; PackageDescription: 20-Pin Plastic TSSOP, Body 6.5 x 4.4 mm, Pitch 0.65 mm; Supplier 1: Digi-Key; Supplier Part Number 1: LTC3414IFE#TRPBF-ND; RoHS: TRUE
footprint LT-FE-20-EPV-CA_N (SOP, 20-Leads, Body 6.6x4.5mm, Pitch 0.65mm, Thermal Pad 4.95x2.74mm, IPC Medium Density)
footprint LT-FE-20-EPV-CA_L (SOP, 20-Leads, Body 6.6x4.5mm, Pitch 0.65mm, Thermal Pad 4.95x2.74mm, IPC High Density)
footprint LT-FE-20-EPV-CA_M (SOP, 20-Leads, Body 6.6x4.5mm, Pitch 0.65mm, Thermal Pad 4.95x2.74mm, IPC Low Density)
pins: 1 PGND (power) "Power Ground. Connect this pin closely to the (-) terminal of CIN and COUT.", 2 RT "Oscillator Resistor Input. Connecting a resistor to ground from this pin sets the switching frequency.", 3 SYNC/MODE (in) "Mode Select and External Clock Synchronization Input. To select Forced Continuous, tie to SVIN. Connecting this pin to a voltage between 0V and 1V selects Burst Mode operation with the burst clamp set to the pin voltage.", 4 RUN/SS (in) "Run Control and Soft-Start Input. Forcing this pin below 0.5V shuts down the LTC3414. In shutdown all functions are disabled. Less than 1uA of supply current is consumed. A capacitor to ground from this pin sets the ramp (See Datasheet)", 5 SGND (power) "Signal Ground. All small signal components and compensation components should connect to this ground, which in turn connects to PGND at one point.", 6 NC "Open. No internal connection.", 7 PVIN (power) "Power Input Supply. Decouple this pin to PGND with a capacitor.", 8 SW (power) "Switch Node Connection to Inductor. This pin connects to the drains of the internal main and synchronous power MOSFET switches.", 9 SW (power) "Switch Node Connection to Inductor. This pin connects to the drains of the internal main and synchronous power MOSFET switches.", 10 PGND (power) "Power Ground. Connect this pin closely to the (-) terminal of CIN and COUT.", 11 PGND (power) "Power Ground. Connect this pin closely to the (-) terminal of CIN and COUT.", 12 SW (power) "Switch Node Connection to Inductor. This pin connects to the drains of the internal main and synchronous power MOSFET switches.", 13 SW (power) "Switch Node Connection to Inductor. This pin connects to the drains of the internal main and synchronous power MOSFET switches.", 14 PVIN (power) "Power Input Supply. Decouple this pin to PGND with a capacitor.", 15 NC "Open. No internal connection.", 16 SVIN (power) "Signal Input Supply. Decouple this pin to SGND with a capacitor.", 17 PGOOD (oc) "Power Good Output. Open drain logic output that is pulled to ground when the output voltage is not within +/-7.5% of regulation point.", 18 ITH "Error Amplifier Compensation Point. The current comparator threshold increases with this control voltage. Nominal voltage range for this pin is from 0.2V to 1.4V with 0.4V corresponding to the zero-sense voltage (zero (See Datasheet)", 19 VFB (in) "Feedback Pin. Receives the feedback voltage from a resistive divider connected across the output.", 20 PGND (power) "Power Ground. Connect this pin closely to the (-) terminal of CIN and COUT.", 21 EP (power) "Should be connected to SGND and soldered to the PCB."

## LTC3414MPFE
designator U?
4 A, 4 MHz, Monolithic Synchronous Step-Down Regulator, 20-pin SOP (FE-20-EPV-CA), -55 to 125 degC; Manufacturer: Linear Technology; PartNumber: LTC3414MPFE; Number of Outputs: 1; PackageReference: FE-20; PackageDescription: 20-Pin Plastic TSSOP, Body 6.5 x 4.4 mm, Pitch 0.65 mm; Supplier 1: Newark; Supplier Part Number 1: 56M7715; RoHS: FALSE
footprint LT-FE-20-EPV-CA_N (SOP, 20-Leads, Body 6.6x4.5mm, Pitch 0.65mm, Thermal Pad 4.95x2.74mm, IPC Medium Density)
footprint LT-FE-20-EPV-CA_L (SOP, 20-Leads, Body 6.6x4.5mm, Pitch 0.65mm, Thermal Pad 4.95x2.74mm, IPC High Density)
footprint LT-FE-20-EPV-CA_M (SOP, 20-Leads, Body 6.6x4.5mm, Pitch 0.65mm, Thermal Pad 4.95x2.74mm, IPC Low Density)
pins: 1 PGND (power) "Power Ground. Connect this pin closely to the (-) terminal of CIN and COUT.", 2 RT "Oscillator Resistor Input. Connecting a resistor to ground from this pin sets the switching frequency.", 3 SYNC/MODE (in) "Mode Select and External Clock Synchronization Input. To select Forced Continuous, tie to SVIN. Connecting this pin to a voltage between 0V and 1V selects Burst Mode operation with the burst clamp set to the pin voltage.", 4 RUN/SS (in) "Run Control and Soft-Start Input. Forcing this pin below 0.5V shuts down the LTC3414. In shutdown all functions are disabled. Less than 1uA of supply current is consumed. A capacitor to ground from this pin sets the ramp (See Datasheet)", 5 SGND (power) "Signal Ground. All small signal components and compensation components should connect to this ground, which in turn connects to PGND at one point.", 6 NC "Open. No internal connection.", 7 PVIN (power) "Power Input Supply. Decouple this pin to PGND with a capacitor.", 8 SW (power) "Switch Node Connection to Inductor. This pin connects to the drains of the internal main and synchronous power MOSFET switches.", 9 SW (power) "Switch Node Connection to Inductor. This pin connects to the drains of the internal main and synchronous power MOSFET switches.", 10 PGND (power) "Power Ground. Connect this pin closely to the (-) terminal of CIN and COUT.", 11 PGND (power) "Power Ground. Connect this pin closely to the (-) terminal of CIN and COUT.", 12 SW (power) "Switch Node Connection to Inductor. This pin connects to the drains of the internal main and synchronous power MOSFET switches.", 13 SW (power) "Switch Node Connection to Inductor. This pin connects to the drains of the internal main and synchronous power MOSFET switches.", 14 PVIN (power) "Power Input Supply. Decouple this pin to PGND with a capacitor.", 15 NC "Open. No internal connection.", 16 SVIN (power) "Signal Input Supply. Decouple this pin to SGND with a capacitor.", 17 PGOOD (oc) "Power Good Output. Open drain logic output that is pulled to ground when the output voltage is not within +/-7.5% of regulation point.", 18 ITH "Error Amplifier Compensation Point. The current comparator threshold increases with this control voltage. Nominal voltage range for this pin is from 0.2V to 1.4V with 0.4V corresponding to the zero-sense voltage (zero (See Datasheet)", 19 VFB (in) "Feedback Pin. Receives the feedback voltage from a resistive divider connected across the output.", 20 PGND (power) "Power Ground. Connect this pin closely to the (-) terminal of CIN and COUT.", 21 EP (power) "Should be connected to SGND and soldered to the PCB."